# Altium footprint library AIRZAI_LID_BD_REVA.PcbLib: 59 footprints (part 1 of 4)
Each footprint in its own frame and in the unit in brackets; x right, y up, seen from the top. Pads: shape width x height; smd on the part's side, far side on the other; paste and mask are expansions set on the pad; w line width, h text height; cw(c..) or ccw(c..) is an arc to the next point about the centre after c.
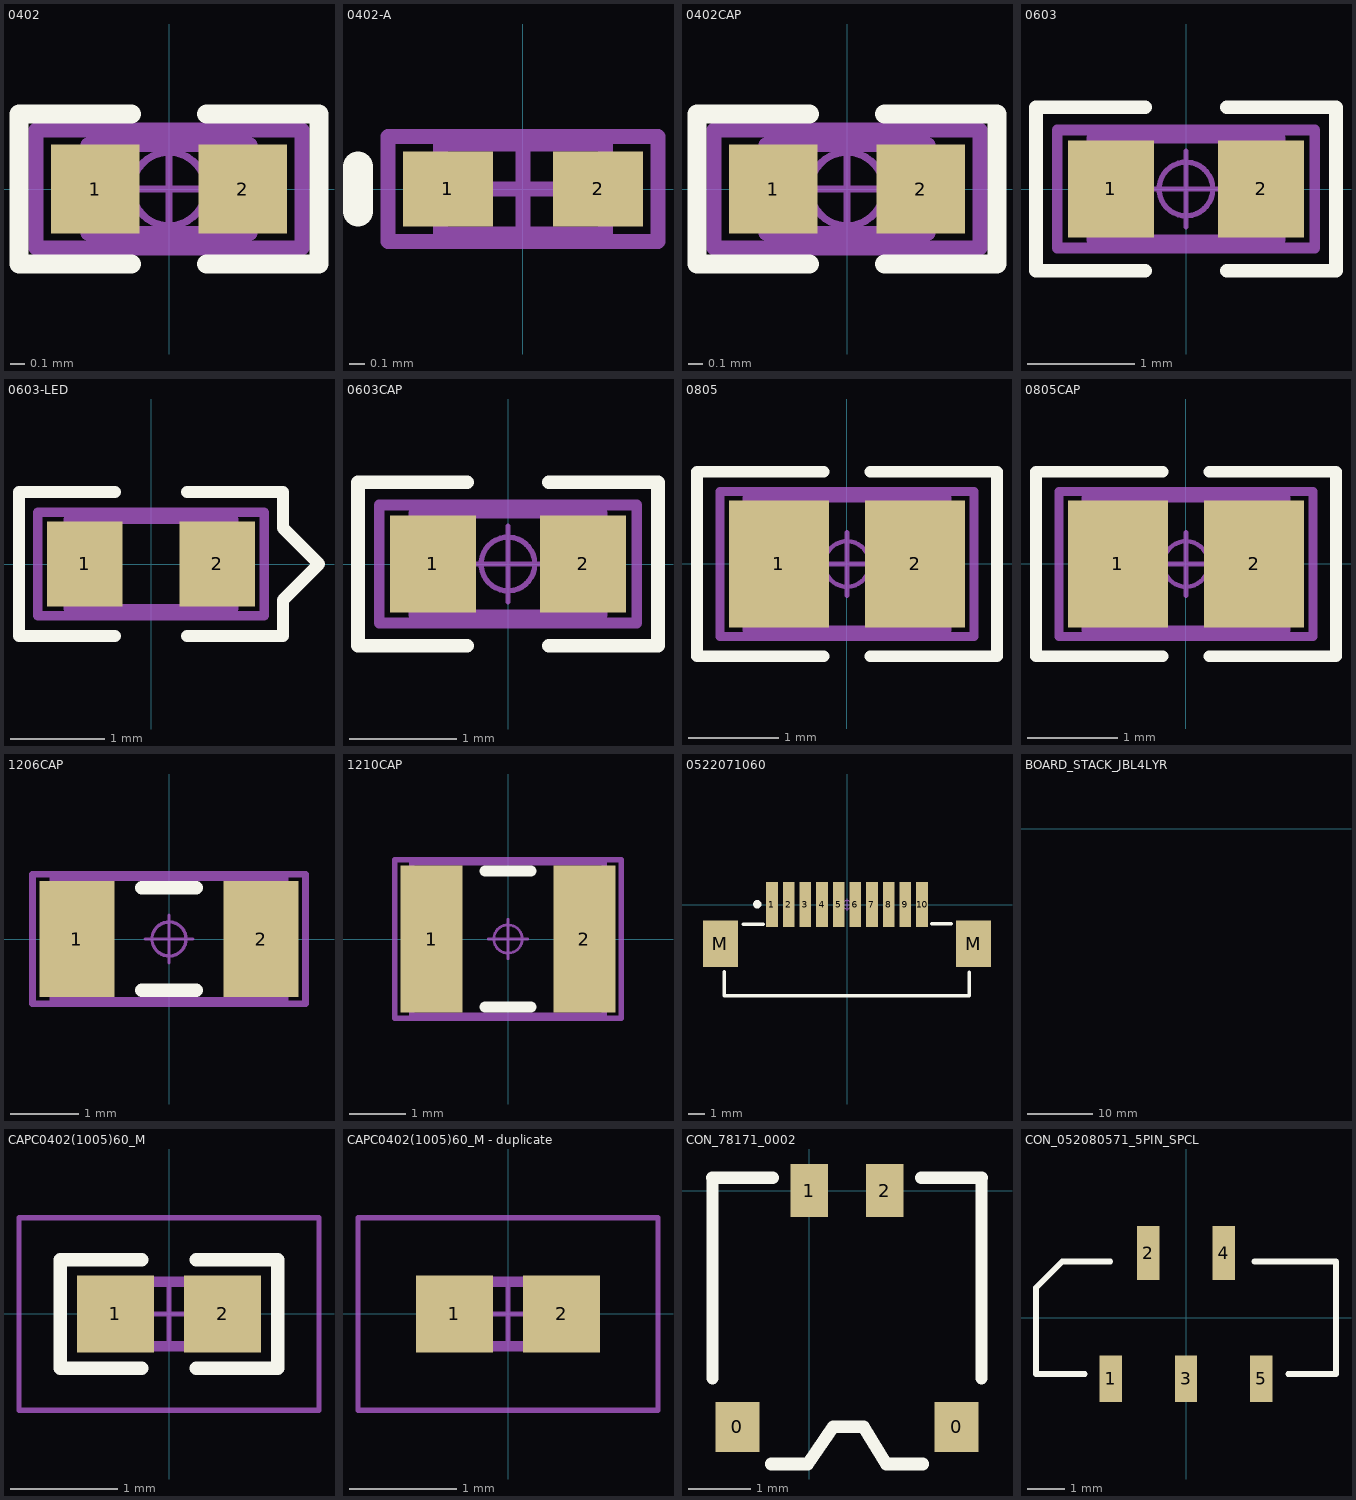
[diagram p0: the footprints below, top view; thin cyan lines are the x and y axes]

## 0402 [mm] "Chip Resistor, Body 1.1x0.5mm, IPC High Density"
height 0.4
pads (2):
  rect 0.6x0.6 smd: 1(-0.5,0) 2(0.5,0)
Top Overlay:
  lines w0.127: -0.254,-0.508 -1.016,-0.508 -1.016,0.508 -0.254,0.508 ; 0.254,-0.508 1.016,-0.508 1.016,0.508 0.254,0.508
Mechanical 1:
  text ".Designator" at -0.878,-0.254 h0.51
Mechanical 13:
  lines w0.1: -0.55,-0.3 0.55,-0.3 0.55,0.3 -0.55,0.3 -0.55,-0.3
Mechanical 15:
  circle w0.05: c0,0 r0.25
  lines w0.05: -0.35,0 0.35,0 ; 0,-0.35 0,0.35
  lines w0.1: -0.9,-0.4 0.9,-0.4 0.9,0.4 -0.9,0.4 -0.9,-0.4
3D body "R0402.step": height 0.27, standoff 0, extent -0.5,-0.254 0.5,0.248

## 0402-A [mm] "Chip Inductor, Body 1.0x0.5mm, IPC High Density"
height 0.55
pads (2):
  rect 0.6x0.5 smd: 1(-0.5,0) 2(0.5,0)
Top Overlay:
  lines w0.2: -1.1,-0.15 -1.1,0.15
Mechanical 13:
  lines w0.1: -0.55,-0.3 -0.55,0.3 0.55,0.3 0.55,-0.3 -0.55,-0.3
Mechanical 15:
  lines w0.1: -0.3,0 0.3,0 ; 0,-0.3 0,0.3 ; -0.9,-0.35 -0.9,0.35 0.9,0.35 0.9,-0.35 -0.9,-0.35
3D body: height 0.55, standoff 0, extent -0.55,-0.3 0.55,0.3

## 0402CAP [mm] "Chip Capacitor, Body 1.1x0.5mm, IPC High Density"
height 0.6
pads (2):
  rect 0.6x0.6 smd: 1(-0.5,0) 2(0.5,0)
Top Overlay:
  lines w0.127: -0.254,-0.508 -1.016,-0.508 -1.016,0.508 -0.254,0.508 ; 0.254,-0.508 1.016,-0.508 1.016,0.508 0.254,0.508
Mechanical 1:
  text ".Designator" at -0.878,-0.254 h0.51
Mechanical 13:
  lines w0.1: -0.55,-0.3 -0.55,0.3 0.55,0.3 0.55,-0.3 -0.55,-0.3
Mechanical 15:
  circle w0.05: c0,0 r0.25
  lines w0.05: -0.35,0 0.35,0 ; 0,-0.35 0,0.35
  lines w0.1: -0.9,-0.4 -0.9,0.4 0.9,0.4 0.9,-0.4 -0.9,-0.4
3D body "0402CAP.step": height 0.19, standoff -0.01, extent -0.5,-0.3 0.5,0.3

## 0603 [mm] "Chip Resistor, Body 1.6x0.8mm, IPC High Density"
height 0.55
pads (2):
  rect 0.8x0.9 smd: 1(-0.7,0) 2(0.7,0)
Top Overlay:
  lines w0.127: -0.381,-0.762 -1.397,-0.762 -1.397,0.762 -0.381,0.762 ; 0.381,-0.762 1.397,-0.762 1.397,0.762 0.381,0.762
Mechanical 1:
  text ".Designator" at -1.143,-0.254 h0.51
Mechanical 13:
  lines w0.1: -0.875,-0.475 -0.875,0.475 0.875,0.475 0.875,-0.475 -0.875,-0.475
Mechanical 15:
  circle w0.05: c0,0 r0.25
  lines w0.05: -0.35,0 0.35,0 ; 0,-0.35 0,0.35
  lines w0.1: -1.2,-0.55 -1.2,0.55 1.2,0.55 1.2,-0.55 -1.2,-0.55
3D body "R0603.step": height 0.37, standoff 0, extent -0.8,-0.406 0.8,0.396

## 0603-LED [mm] "Chip LED, Body 1.6x0.8mm, IPC High Density"
height 0.85
pads (2):
  rect 0.8x0.9 smd: 1(-0.7,0) 2(0.7,0)
Top Overlay:
  lines w0.127: -0.381,-0.762 -1.397,-0.762 -1.397,0.762 -0.381,0.762 ; 0.381,-0.762 1.397,-0.762 1.397,-0.381 1.778,0 1.397,0.381 1.397,0.762 0.381,0.762
Mechanical 1:
  text ".Designator" at -1.143,-0.254 h0.51
Mechanical 13:
  lines w0.1: -0.875,-0.475 0.875,-0.475 0.875,0.475 -0.875,0.475 -0.875,-0.475
Mechanical 15:
  lines w0.1: -1.2,-0.55 1.2,-0.55 1.2,0.55 -1.2,0.55 -1.2,-0.55
3D body "0603-LED.step": height 1.09, standoff 0, extent -0.799,-0.381 0.801,0.406

## 0603CAP [mm] "Chip Capacitor, Body 1.6x0.8mm, IPC High Density"
height 0.9
pads (2):
  rect 0.8x0.9 smd: 1(-0.7,0) 2(0.7,0)
Top Overlay:
  lines w0.127: -0.381,-0.762 -1.397,-0.762 -1.397,0.762 -0.381,0.762 ; 0.381,-0.762 1.397,-0.762 1.397,0.762 0.381,0.762
Mechanical 1:
  text ".Designator" at -1.143,-0.254 h0.51
Mechanical 13:
  lines w0.1: -0.875,-0.475 0.875,-0.475 0.875,0.475 -0.875,0.475 -0.875,-0.475
Mechanical 15:
  circle w0.05: c0,0 r0.25
  lines w0.05: -0.35,0 0.35,0 ; 0,-0.35 0,0.35
  lines w0.1: -1.2,-0.55 1.2,-0.55 1.2,0.55 -1.2,0.55 -1.2,-0.55
3D body "0603CAP.step": height 0.29, standoff -0.01, extent -0.8,-0.4 0.8,0.4

## 0805 [mm] "Chip Resistor, Body 2.0x1.3mm, IPC High Density"
height 1.1
pads (2):
  rect 1.1x1.4 smd: 1(-0.75,0) 2(0.75,0)
Top Overlay:
  lines w0.127: -0.254,-1.016 -1.651,-1.016 -1.651,1.016 -0.254,1.016 ; 0.254,-1.016 1.651,-1.016 1.651,1.016 0.254,1.016
Mechanical 1:
  text ".Designator" at -1.397,-0.254 h0.51
Mechanical 13:
  lines w0.1: -1.1,-0.725 -1.1,0.725 1.1,0.725 1.1,-0.725 -1.1,-0.725
Mechanical 15:
  circle w0.05: c0,0 r0.25
  lines w0.05: -0.35,0 0.35,0 ; 0,-0.35 0,0.35
  lines w0.1: -1.4,-0.8 -1.4,0.8 1.4,0.8 1.4,-0.8 -1.4,-0.8
3D body "R0805.step": height 0.47, standoff 0, extent -1.016,-0.635 0.984,0.617

## 0805CAP [mm] "Chip Capacitor, Body 2.0x1.3mm, IPC High Density"
height 1.4
pads (2):
  rect 1.1x1.4 smd: 1(-0.75,0) 2(0.75,0)
Top Overlay:
  lines w0.127: -0.254,-1.016 -1.651,-1.016 -1.651,1.016 -0.254,1.016 ; 0.254,-1.016 1.651,-1.016 1.651,1.016 0.254,1.016
Mechanical 1:
  text ".Designator" at -1.397,-0.254 h0.51
Mechanical 13:
  lines w0.1: -1.1,-0.725 -1.1,0.725 1.1,0.725 1.1,-0.725 -1.1,-0.725
Mechanical 15:
  circle w0.05: c0,0 r0.25
  lines w0.05: -0.35,0 0.35,0 ; 0,-0.35 0,0.35
  lines w0.1: -1.4,-0.8 -1.4,0.8 1.4,0.8 1.4,-0.8 -1.4,-0.8
3D body "0805CAP.step": height 0.78, standoff 0, extent -1,-0.625 1,0.625

## 1206CAP [mm] "Chip Capacitor, Body 3.2x1.6mm, IPC High Density"
height 1.8
pads (2):
  rect 1.1x1.7 smd: 1(-1.35,0) 2(1.35,0)
Top Overlay:
  lines w0.2: -0.4,-0.75 0.4,-0.75 ; -0.4,0.75 0.4,0.75
Mechanical 1:
  text ".Designator" at -1.143,-0.254 h0.51
Mechanical 13:
  lines w0.1: -1.7,-0.9 1.7,-0.9 1.7,0.9 -1.7,0.9 -1.7,-0.9
Mechanical 15:
  circle w0.05: c0,0 r0.25
  lines w0.05: -0.35,0 0.35,0 ; 0,-0.35 0,0.35
  lines w0.1: -2,-0.95 2,-0.95 2,0.95 -2,0.95 -2,-0.95
3D body "1206CAP.step": height 1, standoff 0, extent -1.6,-0.8 1.6,0.8

## 1210CAP [mm] "Chip Capacitor, Body 3.2x2.5mm, IPC High Density"
height 2.5
pads (2):
  rect 1.1x2.6 smd: 1(-1.35,0) 2(1.35,0)
Top Overlay:
  lines w0.2: -0.4,-1.2 0.4,-1.2 ; -0.4,1.2 0.4,1.2
Mechanical 1:
  text ".Designator" at -1.092,-0.254 h0.51
Mechanical 13:
  lines w0.1: -1.7,-1.35 -1.7,1.35 1.7,1.35 1.7,-1.35 -1.7,-1.35
Mechanical 15:
  circle w0.05: c0,0 r0.25
  lines w0.05: -0.35,0 0.35,0 ; 0,-0.35 0,0.35
  lines w0.1: -2,-1.4 -2,1.4 2,1.4 2,-1.4 -2,-1.4
3D body "1210 CAP.step": height 2.5, standoff 0, extent -1.6,-1.25 1.6,1.25

## 0522071060 [mm]
pads (12):
  rect 0.7x2.7 smd: 1(-4.5,0) 2(-3.5,0) 3(-2.5,0) 4(-1.5,0) 5(-0.5,0) 6(0.5,0) 7(1.5,0) 8(2.5,0) 9(3.5,0) 10(4.5,0)
  rect 2.1x2.8 smd: M(-7.6,-2.35) M(7.6,-2.35)
Top Overlay:
  circle w0.25: c-5.385,0.025 r0.125
  lines w0.2: -7.366,-5.468 -7.366,-4.029 ; -7.35,-5.468 7.341,-5.468 7.341,-4.039 ; -6.223,-1.168 -5.029,-1.168 ; 5.08,-1.143 6.274,-1.143
Mechanical 1:
  text ".Designator" at -3.607,-3.81 h0.76
Mechanical 15:
  circle w0.05: c0,0 r0.25
  lines w0.05: -0.35,0 0.35,0 ; 0,-0.35 0,0.35
3D body "522071060.stp": height 2.65, standoff -0.05, extent -8.15,-8.113 8.15,0.787

## BOARD_STACK_JBL4LYR [mm]
height 1.6
Drill Drawing:
  lines w0.3: 26.507,-19.006 26.507,-14.007 72.725,-14.007 72.725,-19.006 26.507,-19.006 ; 29.507,-30.005 29.507,-25.006 63.504,-25.006 63.504,-30.005 29.507,-30.005 ; 29.507,-8.007 29.507,-3.008 63.504,-3.008 63.504,-8.007 29.507,-8.007
  lines w1: 28.507,-34.005 66.504,-34.005 ; 28.507,-22.006 66.504,-22.006 ; 28.507,-12.007 66.504,-12.007 ; 28.507,-0.008 66.504,-0.008
  text "TOTAL BOARD THICKNESS .80" at 30.325,-39.5 h2.25
  text "0.132MM" at 39.017,-7.063 h2.25
  text "1OZ. CU" at 71.014,-36.061 h2.25
  text "1OZ. CU" at 70.014,-24.062 h2.25
  text "1OZ. CU" at 71.014,-13.063 h2.25
  text "1OZ. CU" at 70.014,-2.064 h2.25
  text "BOT LAYER" at 2.02,-36.061 h3
  text "IN2 LAYER" at 1.02,-24.062 h3
  text "IN1 LAYER" at 1.02,-14.062 h3
  text "TOP LAYER" at 0.02,-3.063 h3
  text "DIMENSIONS ARE IN MM" at 23.478,-44.965 h2.25
  text "ADJUST TO THICKNESS" at 29.017,-18.062 h2.25
  text "0.132MM" at 40.016,-29.061 h2.25

## CAPC0402(1005)60_M [mm] "Chip Capacitor, Body 1.0x0.5mm, Height 0.6mm, IPC Low Density"
height 0.6
pads (2):
  rect 0.72x0.72 smd: 1(-0.5,0) 2(0.5,0)
Top Overlay:
  lines w0.127: -0.254,-0.508 -1.016,-0.508 -1.016,0.508 -0.254,0.508 ; 0.254,-0.508 1.016,-0.508 1.016,0.508 0.254,0.508
Mechanical 13:
  lines w0.1: -0.55,-0.3 -0.55,0.3 0.55,0.3 0.55,-0.3 -0.55,-0.3
Mechanical 15:
  lines w0.05: -0.3,0 0.3,0 ; 0,-0.3 0,0.3 ; -1.4,-0.9 -1.4,0.9 1.4,0.9 1.4,-0.9 -1.4,-0.9
3D body: height 0.6, standoff 0, extent -0.3,-0.3 0.3,0.3
3D body: height 0.6, standoff 0, extent -0.55,-0.3 -0.3,0.3
3D body: height 0.6, standoff 0, extent 0.3,-0.3 0.55,0.3

## CAPC0402(1005)60_M - duplicate [mm] "Chip Capacitor, Body 1.0x0.5mm, Height 0.6mm, IPC Low Density"
height 0.6
pads (2):
  rect 0.72x0.72 smd: 1(-0.5,0) 2(0.5,0)
Mechanical 13:
  lines w0.1: -0.55,-0.3 0.55,-0.3 0.55,0.3 -0.55,0.3 -0.55,-0.3
Mechanical 15:
  lines w0.05: -0.3,0 0.3,0 ; 0,-0.3 0,0.3 ; -1.4,-0.9 1.4,-0.9 1.4,0.9 -1.4,0.9 -1.4,-0.9
3D body: height 0.6, standoff 0, extent 0.3,-0.3 0.55,0.3
3D body: height 0.6, standoff 0, extent -0.55,-0.3 -0.3,0.3
3D body: height 0.6, standoff 0, extent -0.3,-0.3 0.3,0.3

## CON_78171_0002 [mm] "1.55 MATED HT"
height 1.45
pads (4):
  rect 0.7x0.8 smd mask+0.1: 0(-1.15,-3.775) 0(2.35,-3.775)
  rect 0.6x0.85 smd mask+0.1: 1(0,0) 2(1.2,0)
Top Overlay:
  lines w0.198: -1.549,-2.997 -1.549,0.203 ; 2.749,-2.997 2.749,0.203
  lines w0.2: -1.549,0.203 -0.585,0.203 ; -0.61,-4.369 -0.025,-4.369 0.381,-3.775 0.864,-3.775 1.225,-4.369 1.81,-4.369 ; 1.785,0.203 2.749,0.203
3D body "conn_molex_781710002_4.stp": height 1.44, standoff -0.01, extent -1.5,-4.327 2.7,0.202

## CON_052080571_5PIN_SPCL [mm] "MOLEX 5PIN VERT SPCL PADS"
height 5.1
pads (5):
  rect 0.6x1.25 smd: 1(-2,-1.625) 3(0,-1.625) 5(2,-1.625)
  rect 0.6x1.45 smd: 2(-1,1.725) 4(1,1.725)
Top Overlay:
  lines w0.15: -2.7,-1.5 -4,-1.5 -4,0.8 -3.3,1.5 -2.025,1.5 ; 1.825,1.5 4,1.5 4,-1.5 2.725,-1.5
3D body "528080571.stp": height 5.05, standoff -0.05, extent -4,-2.15 4,2.35